# Altium footprint library Electronic_Load.PcbLib: 28 footprints (part 1 of 2)
Each footprint in its own frame and in the unit in brackets; x right, y up, seen from the top. Pads: shape width x height; smd on the part's side, far side on the other; paste and mask are expansions set on the pad; w line width, h text height; cw(c..) or ccw(c..) is an arc to the next point about the centre after c.
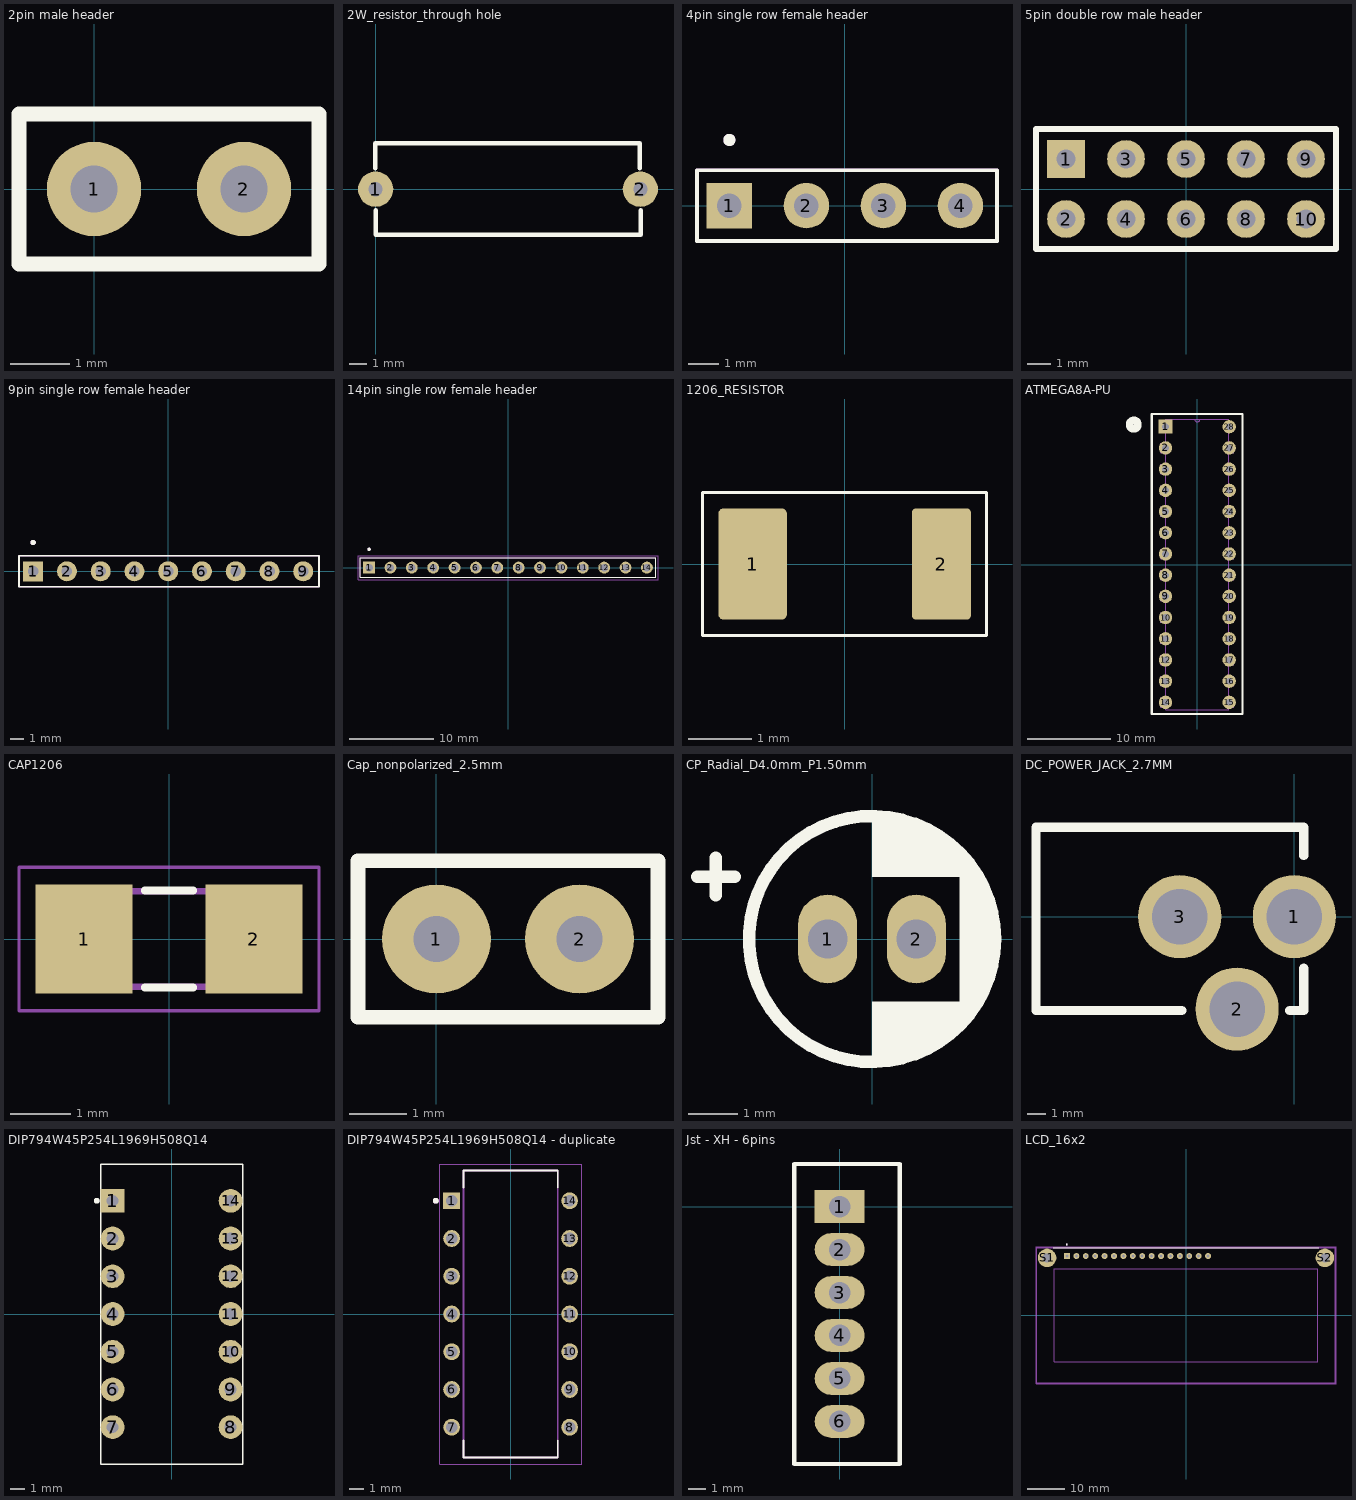
[diagram p0: the footprints below, top view; thin cyan lines are the x and y axes]

## 2pin male header [mm]
pads (2):
  round 1.6 hole 0.8: 1(0,0) 2(2.54,0)
Top Overlay:
  lines w0.254: -1.27,-1.27 3.81,-1.27 3.81,1.27 -1.27,1.27 -1.27,-1.27
3D body "User Library-Header1x2.STEP": height 8.79, standoff -2.19, extent -1.27,-1.27 3.81,1.27

## 2W_resistor_through hole [mm]
pads (2):
  round 2 hole 0.8: 1(0,0) 2(15,0)
Top Overlay:
  lines w0.254: -0.025,1.185 -0.025,2.616 14.961,2.616 14.961,1.185 ; 0,-1.185 0,-2.591 15.011,-2.591 15.011,-1.185
3D body "R_Axial_DIN0207_L6.3mm_D2.5mm_P7.62mm_Horizontal.step": height 2.5, standoff -3, extent 3.36,-1.169 11.575,1.321

## 4pin single row female header [mm]
pads (4):
  rect 1.5x1.5 hole 0.8: 1(-3.81,0)
  round 1.5 hole 0.8: 2(-1.27,0) 3(1.27,0) 4(3.81,0)
Top Overlay:
  circle w0.2: c-3.81,2.168 r0.1
  lines w0.127: -4.877,-1.168 -4.877,1.168 5.02,1.168 5.02,-1.168 -4.877,-1.168
Mechanical 13:
  circle w0.2: c-3.81,2.168 r0.1
  lines w0.127: -4.877,-1.168 -4.877,1.168 5.02,1.168 5.02,-1.168 -4.877,-1.168
3D body "User Library-zl262-4s_p2-54_l10-66_w2-54_h8-5.step": height 8.5, standoff -3, extent -5.33,-1.27 5.33,1.27

## 5pin double row male header [mm]
pads (10):
  rect 1.6x1.6 hole 0.8: 1(-5.08,1.27)
  round 1.6 hole 0.8: 2(-5.08,-1.27) 3(-2.54,1.27) 4(-2.54,-1.27) 5(0,1.27) 6(0,-1.27) 7(2.54,1.27) 8(2.54,-1.27) 9(5.08,1.27) 10(5.08,-1.27)
Top Overlay:
  lines w0.254: -6.35,-2.54 -6.35,2.54 6.35,2.54 6.35,-2.54 -6.35,-2.54
3D body "2x5 Male Pin Header.STEP": height 10.54, standoff -3, extent -6.355,-2.5 6.35,2.5

## 9pin single row female header [mm]
pads (9):
  rect 1.5x1.5 hole 0.8: 1(-10.16,0)
  round 1.5 hole 0.8: 2(-7.62,0) 3(-5.08,0) 4(-2.54,0) 5(0,0) 6(2.54,0) 7(5.08,0) 8(7.62,0) 9(10.16,0)
Top Overlay:
  circle w0.2: c-10.16,2.168 r0.1
  lines w0.127: -11.227,-1.168 -11.227,1.168 11.35,1.168 11.35,-1.168 -11.227,-1.168
Mechanical 13:
  circle w0.2: c-10.16,2.168 r0.1
  lines w0.127: -11.227,-1.168 -11.227,1.168 11.35,1.168 11.35,-1.168 -11.227,-1.168
3D body "User Library-zl262-9s_p2-54_l23-36_w2-54_h8-5.step": height 8.5, standoff -3, extent -11.68,-1.27 11.68,1.27

## 14pin single row female header [mm]
pads (14):
  rect 1.398x1.398 hole 0.89: 1(-16.51,0)
  round 1.398 hole 0.89: 2(-13.97,0) 3(-11.43,0) 4(-8.89,0) 5(-6.35,0) 6(-3.81,0) 7(-1.27,0) 8(1.27,0) 9(3.81,0) 10(6.35,0) 11(8.89,0) 12(11.43,0) 13(13.97,0) 14(16.51,0)
Top Overlay:
  circle w0.2: c-16.51,2.168 r0.1
  lines w0.127: -17.577,-1.168 17.577,-1.168 17.577,1.168 -17.577,1.168 -17.577,-1.168
Mechanical 13:
  circle w0.2: c-16.51,2.168 r0.1
  lines w0.127: -17.577,-1.168 17.577,-1.168 17.577,1.168 -17.577,1.168 -17.577,-1.168
Mechanical 15:
  lines w0.05: -17.827,-1.418 17.827,-1.418 17.827,1.418 -17.827,1.418 -17.827,-1.418
3D body "Hdr Con Female Stackable.step": height 8.51, standoff -13.84, extent -17.78,-1.163 17.78,1.25

## 1206_RESISTOR [mm]
pads (2):
  rrect14% 1.09x1.77 smd: 1(-1.465,0)
  rrect14% 0.94x1.77 smd: 2(1.54,0)
Top Overlay:
  lines w0.05: -2.26,-1.14 -2.26,1.14 ; -2.26,-1.14 -2.26,1.14 ; -2.26,-1.14 2.26,-1.14 ; -2.26,-1.14 2.26,-1.14 ; -2.26,1.14 2.26,1.14 ; -2.26,1.14 2.26,1.14 ; 2.26,-1.14 2.26,1.14 ; 2.26,-1.14 2.26,1.14
3D body "2-1879462-9.stp": height 0.48, standoff -0.08, extent -1.55,-0.775 1.55,0.775

## ATMEGA8A-PU [mm]
pads (28):
  rect 1.676x1.676 / inner round 1.676 / far side rect 1.676x1.676 hole 0.8: 1(-3.81,16.51)
  round 1.6 hole 0.8: 2(-3.81,13.97) 3(-3.81,11.43) 4(-3.81,8.89) 5(-3.81,6.35) 6(-3.81,3.81) 7(-3.81,1.27) 8(-3.81,-1.27) 9(-3.81,-3.81) 10(-3.81,-6.35) 11(-3.81,-8.89) 12(-3.81,-11.43) 13(-3.81,-13.97) 14(-3.81,-16.51) 15(3.81,-16.51) 16(3.81,-13.97) 17(3.81,-11.43) 18(3.81,-8.89) 19(3.81,-6.35) 20(3.81,-3.81) 21(3.81,-1.27) 22(3.81,1.27) 23(3.81,3.81) 24(3.81,6.35) 25(3.81,8.89) 26(3.81,11.43) 27(3.81,13.97) 28(3.81,16.51)
Top Overlay:
  circle w0.9: c-7.62,16.764 r0.508
  lines w0.254: -5.461,-17.907 5.41,-17.907 5.41,18.034 -5.461,18.034 -5.461,-17.907
Mechanical 13:
  lines w0: -0.305,17.399 ccw(c0,17.399) 0.305,17.399 ; -0.305,17.399 -3.759,17.399 -3.759,-17.399 3.759,-17.399 3.759,17.399 0.305,17.399 ; -0.305,17.399 0.305,17.399 ; -4.369,-17.069 -3.734,-17.069 -3.734,-15.951 -4.369,-15.951 -4.369,-17.069 ; -4.369,-14.529 -3.734,-14.529 -3.734,-13.411 -4.369,-13.411 -4.369,-14.529 ; -4.369,-11.989 -3.734,-11.989 -3.734,-10.871 -4.369,-10.871 -4.369,-11.989 ; -4.369,-9.449 -3.734,-9.449 -3.734,-8.331 -4.369,-8.331 -4.369,-9.449 ; -4.369,-6.909 -3.734,-6.909 -3.734,-5.791 -4.369,-5.791 -4.369,-6.909 ; -4.369,-4.369 -3.734,-4.369 -3.759,-3.251 -4.369,-3.251 -4.369,-4.369 ; -4.369,-1.829 -3.759,-1.829 -3.759,-0.711 -4.369,-0.711 -4.369,-1.829 ; -4.369,0.711 -3.759,0.711 -3.759,1.829 -4.369,1.829 -4.369,0.711 ; -4.369,3.251 -3.759,3.251 -3.759,4.369 -4.369,4.369 -4.369,3.251 ; -4.369,5.791 -3.759,5.791 -3.759,6.909 -4.369,6.909 -4.369,5.791 ; -4.369,8.331 -3.759,8.331 -3.759,9.449 -4.369,9.449 -4.369,8.331 ; -4.369,10.871 -3.759,10.871 -3.759,11.989 -4.369,11.989 -4.369,10.871 ; -4.369,13.411 -3.759,13.411 -3.759,14.529 -4.369,14.529 -4.369,13.411 ; -4.369,15.951 -3.759,15.951 -3.759,17.069 -4.369,17.069 -4.369,15.951 ; 3.734,-15.951 4.369,-15.951 4.369,-17.069 3.759,-17.069 3.734,-15.951 ; 3.734,-13.411 4.369,-13.411 4.369,-14.529 3.759,-14.529 3.734,-13.411 ; 3.734,-11.989 4.369,-11.989 4.369,-10.871 3.734,-10.871 3.734,-11.989 ; 3.734,-9.449 4.369,-9.449 4.369,-8.331 3.734,-8.331 3.734,-9.449 ; 3.734,-6.909 4.369,-6.909 4.369,-5.791 3.734,-5.791 3.734,-6.909 ; 3.734,-4.369 4.369,-4.369 4.369,-3.251 3.734,-3.251 3.734,-4.369 ; 3.734,-1.829 4.369,-1.829 4.369,-0.711 3.734,-0.711 3.734,-1.829 ; 3.734,0.711 4.369,0.711 4.369,1.829 3.734,1.829 3.734,0.711 ; 3.734,3.251 4.369,3.251 4.369,4.369 3.734,4.369 3.734,3.251 ; 3.734,5.791 4.369,5.791 4.369,6.909 3.734,6.909 3.734,5.791 ; 3.734,8.331 4.369,8.331 4.369,9.449 3.734,9.449 3.734,8.331 ; 3.734,10.871 4.369,10.871 4.369,11.989 3.734,11.989 3.734,10.871 ; 3.734,13.411 4.369,13.411 4.369,14.529 3.734,14.529 3.734,13.411 ; 3.734,15.951 4.369,15.951 4.369,17.069 3.734,17.069 3.734,15.951
3D body "step_temp.STEP": height 4.83, standoff -3.17, extent -5.08,-17.336 5.08,17.335
3D body "110-87-328-41-001101.stp": height 2.8, standoff -4.57, extent -5.05,-17.75 5.05,17.75

## CAP1206 [mm]
pads (2):
  rect 1.6x1.8 smd: 1(-1.4,0) 2(1.4,0)
Top Overlay:
  lines w0.127: -0.4,-0.8 0.4,-0.8 ; -0.4,0.8 0.4,0.8
Mechanical 13:
  region: -0.952,-0.851 -1.702,-0.851 -1.702,0.849 -0.952,0.849
  region: 1.702,-0.849 0.952,-0.849 0.952,0.851 1.702,0.851
  lines w0.102: -0.965,-0.787 0.965,-0.787 ; -0.965,0.787 0.965,0.787
Mechanical 15:
  lines w0.051: -2.473,-1.183 2.473,-1.183 2.473,1.183 -2.473,1.183 -2.473,-1.183
3D body "step_temp.STEP": height 1.5, standoff 0, extent -1.6,-0.8 1.6,0.8

## Cap_nonpolarized_2.5mm [mm]
pads (2):
  round 1.9 hole 0.8: 1(0,0) 2(2.5,0)
Top Overlay:
  lines w0.254: -1.37,-1.37 3.87,-1.37 3.87,1.37 -1.37,1.37 -1.37,-1.37
3D body "C_Disc_D5.0mm_W2.5mm_P2.50mm.step": height 5.1, standoff -2, extent -1.25,-1.25 3.75,1.25

## CP_Radial_D4.0mm_P1.50mm [mm]
pads (2):
  oval 1.2x1.8 hole 0.8: 1(-0.9,0) 2(0.9,0)
Top Overlay:
  circle w0.254: c0,0 r2.5
  region: 0,2.54 0,1.27 1.778,1.27 1.778,-1.27 0,-1.27 0,-2.54 0.508,-2.54 0.762,-2.286 1.143,-2.286 1.651,-1.778 1.778,-1.778 2.159,-1.397 2.159,-1.016 2.413,-0.762 2.413,-0.087 2.54,0.04 2.54,0.508 2.286,0.762 2.286,1.27 1.524,2.032 1.397,2.032 1.143,2.286 0.889,2.286 0.762,2.413 0.381,2.413 0.254,2.54
  lines w0.254: -3.556,1.27 -2.794,1.27 ; -3.175,0.889 -3.175,1.651
3D body "C_Radial_D4.0mm_H7.0mm_P1.50mm.step": height 7.1, standoff -1.9, extent -2.5,-2.5 2.5,2.497

## DC_POWER_JACK_2.7MM [mm]
pads (3):
  round 4.5 hole 3: 1(0,0) 2(-3.1,-5) 3(-6.2,0)
Top Overlay:
  lines w0.5: -6.096,-5.08 -13.97,-5.08 -13.97,4.826 0.508,4.826 0.508,3.302 ; -0.254,-5.08 0.508,-5.08 0.508,-2.794
3D body "DS-261B.step": height 11.01, standoff -4.09, extent -13.6,-4.824 0.3,4.476

## DIP794W45P254L1969H508Q14 [mm]
height 5.08
pads (14):
  rect 1.6x1.6 hole 0.8: 1(-3.97,7.62)
  round 1.6 hole 0.8: 2(-3.97,5.08) 3(-3.97,2.54) 4(-3.97,0) 5(-3.97,-2.54) 6(-3.97,-5.08) 7(-3.97,-7.62) 8(3.97,-7.62) 9(3.97,-5.08) 10(3.97,-2.54) 11(3.97,0) 12(3.97,2.54) 13(3.97,5.08) 14(3.97,7.62)
Top Overlay:
  circle w0.2: c-5.035,7.62 r0.1
  lines w0.1: -4.785,-10.095 -4.785,10.095 4.785,10.095 4.785,-10.095 -4.785,-10.095
3D body "step_temp.STEP": height 5.08, standoff -3.3, extent -4.097,-9.652 4.097,9.652

## DIP794W45P254L1969H508Q14 - duplicate [mm]
height 5.08
pads (14):
  rect 1.13x1.13 / inner round 1.13 / far side rect 1.13x1.13 hole 0.78: 1(-3.97,7.62)
  round 1.13 hole 0.78: 2(-3.97,5.08) 3(-3.97,2.54) 4(-3.97,0) 5(-3.97,-2.54) 6(-3.97,-5.08) 7(-3.97,-7.62) 8(3.97,-7.62) 9(3.97,-5.08) 10(3.97,-2.54) 11(3.97,0) 12(3.97,2.54) 13(3.97,5.08) 14(3.97,7.62)
Top Overlay:
  circle w0.2: c-5.035,7.62 r0.1
  lines w0.127: -3.175,-8.51 -3.175,-9.653 3.175,-9.653 3.175,-8.51 ; -3.175,8.51 -3.175,9.653 3.175,9.653 3.175,8.51
Mechanical 13:
  circle w0.2: c-5.035,7.62 r0.1
  lines w0.127: -3.175,-9.653 3.175,-9.653 3.175,9.653 -3.175,9.653 -3.175,-9.653
Mechanical 15:
  lines w0.05: -4.785,-10.095 4.785,-10.095 4.785,10.095 -4.785,10.095 -4.785,-10.095
3D body "step_temp.STEP": height 5.08, standoff -3.3, extent -4.097,-9.652 4.097,9.652

## Jst - XH - 6pins [mm]
pads (6):
  rect 2.9x1.9 hole 1.25: 1(0,0)
  oval 2.9x1.9 hole 1.25: 2(0,-2.5) 3(0,-5) 4(0,-7.5) 5(0,-10) 6(0,-12.5)
Top Overlay:
  lines w0.254: -2.642,-14.975 -2.642,2.475 3.505,2.475 3.505,-14.975 -2.642,-14.975
3D body "JST - XH - Thru (V) - 6Pin - 2.54mm.stp": height 7.21, standoff -3, extent -2.489,-14.91 3.353,2.464

## LCD_16x2 [mm]
height 13.5
pads (18):
  rect 1.6x1.6 hole 0.8: 1(-32.14,16)
  round 1.6 hole 0.8: 2(-29.6,16) 3(-27.06,16) 4(-24.52,16) 5(-21.98,16) 6(-19.44,16) 7(-16.9,16) 8(-14.36,16) 9(-11.82,16) 10(-9.28,16) 11(-6.74,16) 12(-4.2,16) 13(-1.66,16) 14(0.88,16) 15(3.42,16) 16(5.96,16)
  round 5 hole 2.5: S1(-37.5,15.5) S2(37.5,15.5)
Top Overlay:
  circle w0.2: c-32.2,19.1 r0.1
  lines w0.127: -35.8,18.25 35.8,18.25
Mechanical 13:
  circle w0.2: c-32.2,19.1 r0.1
  lines w0.127: -40.25,-18.25 -40.25,18.25 40.25,18.25 40.25,-18.25 -40.25,-18.25 ; -35.6,-12.6 -35.6,12.6 35.6,12.6 35.6,-12.6 -35.6,-12.6
Mechanical 15:
  lines w0.05: -40.5,-18.5 -40.5,18.5 40.5,18.5 40.5,-18.5 -40.5,-18.5
3D body "step_temp.STEP": height 8.9, standoff -4.6, extent -40,-18 40,18